# Altium schematic symbol library EL-sense_ESD_Protectors.SchLib: 3 symbols
Pins are listed as number, name and electrical type; pins without a type are passive.

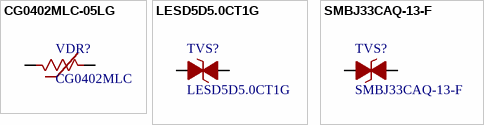
[diagram p0: symbols CG0402MLC-05LG to SMBJ33CAQ-13-F]

## CG0402MLC-05LG
designator VDR?, comment CG0402MLC
Varistor 1 Circuit Surface Mount, MLCV 0402 (1005 Metric); Manufacturer: Bourns Inc.; Maximum DC Volts: 5V; ComponentLink1Description: HelpURL; ComponentLink1URL: http://www.farnell.com/datasheets/1785244.pdf?src-supplier=Element14; Case: 0402; Supplier 1: Digi-Key; Supplier Part Number 1: CG0402MLC-05LGCT-ND
footprint ESD0402
pins: 1, 2

## LESD5D5.0CT1G
designator TVS?
5V 5.6V Bidirectional / 18.6V 9.4A (8/20us) / ESD Protection Devices ROHS / SOD-523; Manufacturer: LRC; ComponentLink1Description: HelpURL; ComponentLink1URL: https://datasheet.lcsc.com/lcsc/1912111437_LRC-LESD5D5-0CT1G_C383211.pdf; Maximum DC Volts: 18.6V; Case: SOD-523; Supplier 1: LCSC; Supplier Part Number 1: LESD5D5.0CT1G
footprint SC-79/SOD-523
pins: 1, 2

## SMBJ33CAQ-13-F
designator TVS?
53.3V Clamp 11.3A / Ipp Tvs Diode Surface Mount SMB; Manufacturer: Bourns Inc.; ComponentLink1Description: HelpURL; ComponentLink1URL: https://www.diodes.com/assets/Datasheets/ds40740.pdf?src-supplier=Digi-Key; Maximum DC Volts: 53.3V; Case: DO-214AA, SMB; Supplier 1: Digi-Key; Supplier Part Number 1: SMBJ33CAQ-13-FDICT-ND
footprint DO-214AA, SMB
pins: 1, 2